# Altium schematic symbol library StLink.SchLib: 24 symbols (part 1 of 3)
Pins are listed as number, name and electrical type; pins without a type are passive.

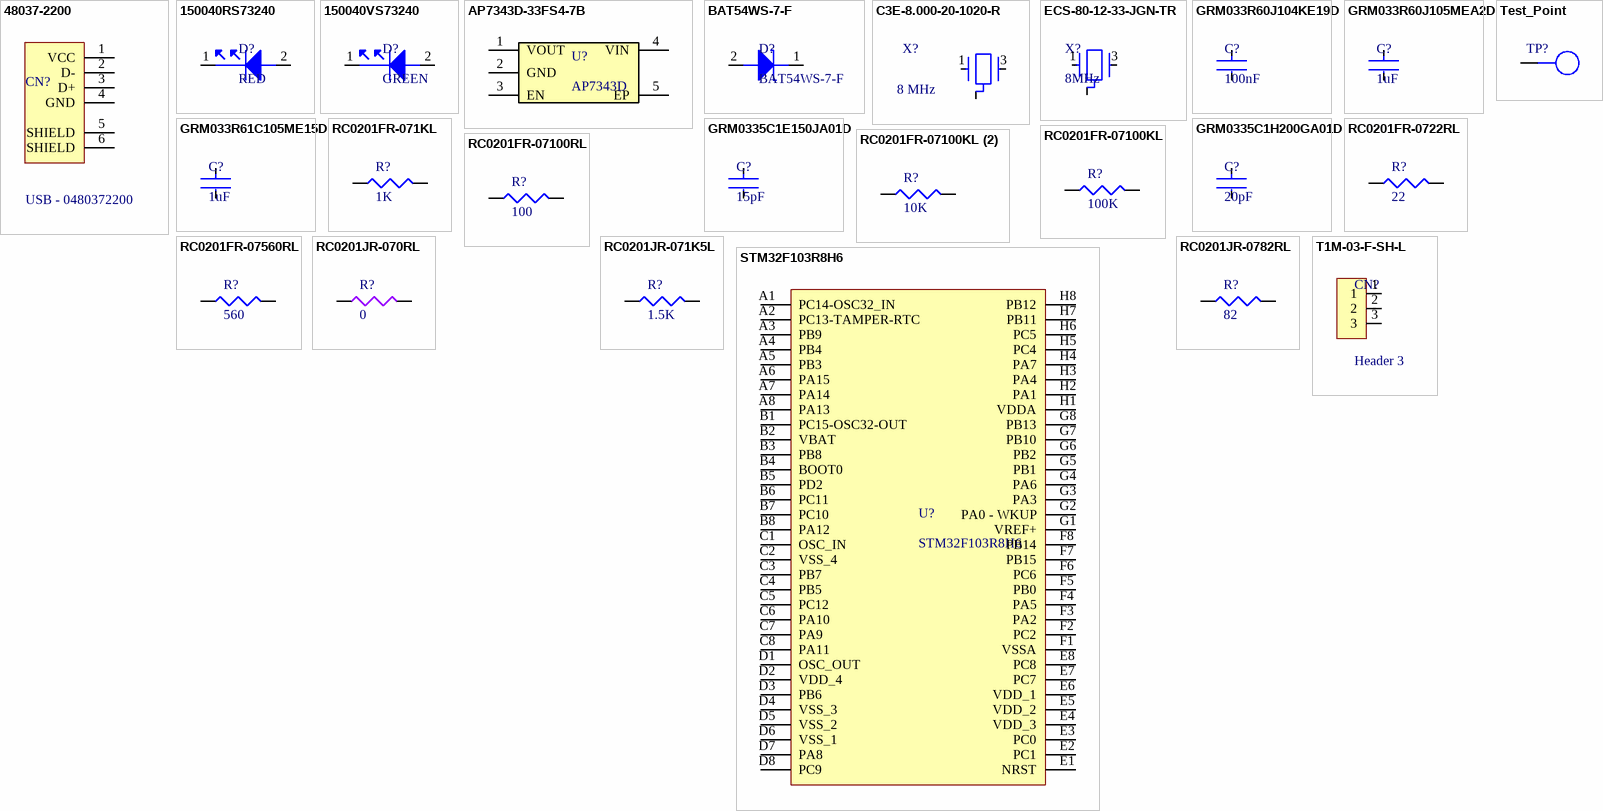
[diagram p0: symbols 48037-2200 to Test_Point]

## 48037-2200
designator CN?, comment USB - 0480372200
USB Connector, 4 Contact(s), Male, Right Angle, Surface Mount Terminal, Locking, Plug; Manufacturer: Molex; Manufacturer Part Number: 48037-2200; Manufacturer Lifecycle Status: ACTIVE; Connector Type: Plug, USB; Current Rating: 1.5A; Insulation Resistance: 1GΩ; Max Voltage Rating (AC): 150V; Number of Circuits: 4; Number of Ports: 1; Pitch: 2mm; Plating: Tin; Plating Thickness: 762nm; USB Standard: USB 2.0; Supplier: DigiKey; Supplier Part Number: WM3983DKR-ND; RoHS: Compliant; Category: USB Connectors; Stock: 10090; Pricing: 1=1,32, 10=1,123, 25=1,0524, 50=1,0022, 100=0,9543 (USD); China RoHS: Compliant; Color: Black; Contact Material: Brass; Contact Plating: Gold; Country of Origin: HK; Export Control Classification Number (ECCN) Code: EAR99; Gender: Male; Halogen Free: Low Halogen; Height: 4.6mm; Housing Material: Nylon; Harmonized Tariff Schedule (HTS) Code: 8536.69.40.30; Introduction Date: 2007-05-29; Lifecycle Status: Production; LTB Date: 2014-09-01; LTD Date: 2014-12-31; Max Operating Temperature: 85°C; Min Operating Temperature: -20°C; Mounting Technology: Surface Mount; Number of Contacts: 4; Pins: 4; Number of Positions: 4; Number of Rows: 1; Number of Terminals: 4; Orientation: Right Angle; Packaging: Cut Tape; Radiation Hardening: No; REACH SVHC: Yes; Schedule B: 8536695050, 8536695050|8536695050|8536695050|8536695050|8536695050; Shell Finish: Nickel; Shell Material: Steel; Terminal Pitch: 2mm; Termination: Solder; Voltage Rating: 150V; Voltage Rating (AC): 150V; ComponentLink1URL: https://datasheet.octopart.com:443/480372200-Molex-datasheet-142372981.pdf?src-supplier=Upverter; ComponentLink1Description: https://datasheet.octopart.com:443/480372200-Molex-datasheet-142372981.pdf?src-supplier=Upverter; ComponentLink2URL: https://datasheet.octopart.com:443/48037-2200-Molex-datasheet-62059301.pdf?src-supplier=Upverter; ComponentLink2Description: https://datasheet.octopart.com:443/48037-2200-Molex-datasheet-62059301.pdf?src-supplier=Upverter; ComponentLink3URL: https://datasheet.octopart.com:443/480372200-Molex-datasheet-8344610.pdf?src-supplier=HQonline; ComponentLink3Description: https://datasheet.octopart.com:443/480372200-Molex-datasheet-8344610.pdf?src-supplier=HQonline; ComponentLink4URL: https://datasheet.octopart.com:443/48037-2200-Molex-datasheet-13746345.pdf?src-supplier=Sager+Electronics; ComponentLink4Description: https://datasheet.octopart.com:443/48037-2200-Molex-datasheet-13746345.pdf?src-supplier=Sager+Electronics; ComponentLink5URL: https://datasheet.octopart.com:443/48037-2200-Molex-datasheet-193109030.pdf?src-supplier=JRH+Electronics; ComponentLink5Description: https://datasheet.octopart.com:443/48037-2200-Molex-datasheet-193109030.pdf?src-supplier=JRH+Electronics; ComponentLink6URL: https://sigma.octopart.com:443/16400051/technical_drawing/Molex-48037-2200.pdf?src-supplier=Molex; ComponentLink6Description: https://sigma.octopart.com:443/16400051/technical_drawing/Molex-48037-2200.pdf?src-supplier=Molex; ComponentLink7URL: https://datasheet.octopart.com:443/48037-2200-Molex-datasheet-77558076.pdf?src-supplier=Farnell; ComponentLink7Description: https://datasheet.octopart.com:443/48037-2200-Molex-datasheet-77558076.pdf?src-supplier=Farnell; ComponentLink8URL: https://datasheet.octopart.com:443/48037-2200-Molex-datasheet-154752285.pdf?src-supplier=Master+Electronics; ComponentLink8Description: https://datasheet.octopart.com:443/48037-2200-Molex-datasheet-154752285.pdf?src-supplier=Master+Electronics; ComponentLink9URL: https://datasheet.octopart.com:443/48037-2200-Molex-datasheet-66635163.pdf?src-supplier=Newark; ComponentLink9Description: https://datasheet.octopart.com:443/48037-2200-Molex-datasheet-66635163.pdf?src-supplier=Newark; ComponentLink10URL: https://datasheet.octopart.com:443/48037-2200-Molex-datasheet-168216728.pdf?src-supplier=TME; ComponentLink10Description: https://datasheet.octopart.com:443/48037-2200-Molex-datasheet-168216728.pdf?src-supplier=TME; ComponentLink11URL: https://datasheet.octopart.com:443/48037-2200-Molex-datasheet-140185240.pdf?src-supplier=RS+(Formerly+Allied+Electronics); ComponentLink11Description: https://datasheet.octopart.com:443/48037-2200-Molex-datasheet-140185240.pdf?src-supplier=RS+(Formerly+Allied+Electronics); ComponentLink12URL: https://datasheet.octopart.com:443/48037-2200-Molex-datasheet-120151368.pdf?src-supplier=RS+(Formerly+Allied+Electronics); ComponentLink12Description: https://datasheet.octopart.com:443/48037-2200-Molex-datasheet-120151368.pdf?src-supplier=RS+(Formerly+Allied+Electronics); ComponentLink13URL: https://datasheet.octopart.com:443/48037-2200-Molex-datasheet-62104878.pdf?src-supplier=Electro+Sonic; ComponentLink13Description: https://datasheet.octopart.com:443/48037-2200-Molex-datasheet-62104878.pdf?src-supplier=Electro+Sonic; ComponentLink14URL: https://datasheet.octopart.com:443/48037-2200-Molex-datasheet-41578501.pdf?src-supplier=Electro+Sonic; ComponentLink14Description: https://datasheet.octopart.com:443/48037-2200-Molex-datasheet-41578501.pdf?src-supplier=Electro+Sonic; ComponentLink15URL: https://datasheet.octopart.com:443/48037-2200-Molex-datasheet-27085190.pdf?src-supplier=Electro+Sonic; ComponentLink15Description: https://datasheet.octopart.com:443/48037-2200-Molex-datasheet-27085190.pdf?src-supplier=Electro+Sonic; ComponentLink16URL: http://sigma.octopart.com:80/16400050/rohs_statement/Molex-48037-2200.pdf?src-supplier=Compliance+Statements; ComponentLink16Description: http://sigma.octopart.com:80/16400050/rohs_statement/Molex-48037-2200.pdf?src-supplier=Compliance+Statements; ComponentLink17URL: http://sigma.octopart.com:80/reach_statement/Molex-company-74.pdf?src-supplier=Compliance+Statements; ComponentLink17Description: http://sigma.octopart.com:80/reach_statement/Molex-company-74.pdf?src-supplier=Compliance+Statements; ComponentLink18URL: http://sigma.octopart.com:80/rohs_statement/Molex-company-73.pdf?src-supplier=Compliance+Statements; ComponentLink18Description: http://sigma.octopart.com:80/rohs_statement/Molex-company-73.pdf?src-supplier=Compliance+Statements; ComponentLink19URL: http://sigma.octopart.com:80/conflict_mineral_statement/Molex-company-72.pdf?src-supplier=Compliance+Statements; ComponentLink19Description: http://sigma.octopart.com:80/conflict_mineral_statement/Molex-company-72.pdf?src-supplier=Compliance+Statements; Supplier 1: DigiKey; Supplier Part Number 1: WM3983DKR-ND
footprint usb A
pins: 1 VCC, 2 D-, 3 D+, 4 GND, 5 SHIELD, 6 SHIELD

## 150040RS73240
designator D?, comment RED
Wurth Elektronik LED, WL-SMCC, 1005 (0402), 625 nm, 1 x 0.5 x 0.4mm; Manufacturer Part Number: 150040RS73240; Manufacturer Lifecycle Status: ACTIVE; Dominant Wavelength: 625nm; Forward Current: 60mA; Forward Voltage: 2V; Luminous Intensity: 100mcd; Max Junction Temperature (Tj): 95°C; Max Reverse Voltage (DC): 5V; Peak Wavelength: 630nm; Power Dissipation: 72mW; Viewing Angle: 120°; YEOL: 1 = Estimated lifetime > 10 years; Supplier: DigiKey; Supplier Part Number: 732-11991-1-ND; Manufacturer: Wurth Elektronik; RoHS: Compliant; Category: LEDs; Stock: 5288; Pricing: 1=0,32, 10=0,271, 100=0,244, 500=0,217, 1000=0,191 (USD); Case/Package: 0402; Color: Red; Height: 400µm; Length: 1mm; Lifecycle Status: Production; Max Operating Temperature: 85°C; Min Operating Temperature: -40°C; Packaging: Tape and Reel; Reverse Voltage: 5V; Wavelength: 625nm; Width: 500µm; ComponentLink1URL: https://datasheet.octopart.com:443/150040RS73240-W%C3%BCrth-Elektronik-datasheet-140170125.pdf?src-supplier=Wurth+Elektronik; ComponentLink1Description: https://datasheet.octopart.com:443/150040RS73240-W%C3%BCrth-Elektronik-datasheet-140170125.pdf?src-supplier=Wurth+Elektronik; Supplier 1: DigiKey; Supplier Part Number 1: 732-11991-1-ND
footprint Led 0402
pins: 1, 2

## 150040VS73240
designator D?, comment GREEN
Wurth Elektronik LED, WL-SMCC, 1005 (0402), 570 nm, 1 x 0.5 x 0.4mm; Manufacturer Part Number: 150040VS73240; Manufacturer Lifecycle Status: ACTIVE; Dominant Wavelength: 570nm; Forward Current: 60mA; Forward Voltage: 2V; Luminous Intensity: 50mcd; Max Junction Temperature (Tj): 95°C; Max Reverse Voltage (DC): 5V; Peak Wavelength: 572nm; Power Dissipation: 75mW; Viewing Angle: 120°; YEOL: 1 = Estimated lifetime > 10 years; Supplier: DigiKey; Supplier Part Number: 732-11992-1-ND; Manufacturer: Wurth Elektronik; RoHS: Compliant; Category: LEDs; Stock: 80192; Pricing: 1=0,32, 10=0,271, 100=0,244, 500=0,217, 1000=0,191 (USD); Case/Package: 0402; Color: Green; Height: 400µm; Length: 1mm; Lifecycle Status: Production; Max Operating Temperature: 85°C; Min Operating Temperature: -40°C; Packaging: Tape and Reel; Reverse Voltage: 5V; Wavelength: 570nm; Width: 500µm; ComponentLink1URL: https://datasheet.octopart.com:443/150040VS73240-W%C3%BCrth-Elektronik-datasheet-140170126.pdf?src-supplier=Wurth+Elektronik; ComponentLink1Description: https://datasheet.octopart.com:443/150040VS73240-W%C3%BCrth-Elektronik-datasheet-140170126.pdf?src-supplier=Wurth+Elektronik; Supplier 1: DigiKey; Supplier Part Number 1: 732-11992-1-ND
footprint Led 0402
pins: 1, 2

## AP7343D-33FS4-7B
designator U?, comment AP7343D
Ldo, Fixed, 3.3V, 0.3A, -40 To 85Deg C Rohs Compliant: Yes |Diodes Inc. AP7343D-33FS4-7B; Dropout Voltage: 220mV; Max Supply Voltage: 5.25V; Max Junction Temperature (Tj): 125°C; Min Input Voltage: 4.3V; Number of Circuits: 1; Output Current: 300mA; Voltage Tolerance: 1%; Supplier: DigiKey; Supplier Part Number: AP7343D-33FS4-7BDICT-ND; Manufacturer: Diodes Inc.; Manufacturer Part Number: AP7343D-33FS4-7B; RoHS: Compliant; Category: LDO Voltage Regulators; Stock: 9621; Pricing: 1=0,11, 10=0,076, 25=0,0664, 100=0,0557, 250=0,05072, 500=0,04772, 1000=0,04524, 2500=0,04261, 5000=0,04103, 10000=0,03973, 20000=0,03865, 30000=0,03812, 50000=0,03752, 70000=0,03717, 100000=0,03684, 250000=0,03612 (USD); China RoHS: Compliant; Country of Origin: Mainland China; Export Control Classification Number (ECCN) Code: EAR99; Height - Seated (Max): 400µm; Harmonized Tariff Schedule (HTS) Code: 8542.39.00.60; Introduction Date: 2015-12-08; Length: 1mm; Lifecycle Status: Production; Max Operating Temperature: 85°C; Min Operating Temperature: -40°C; Mounting Technology: Surface Mount; Number of Outputs: 1; Number of Regulators: 1; Number of Terminals: 4; Output Voltage: 3.3V; REACH SVHC: Yes; Terminal Pitch: 650µm; Width: 1mm; ComponentLink1URL: https://datasheet.octopart.com:443/AP7343D-33FS4-7B-Diodes-Inc.-datasheet-160640090.pdf?src-supplier=IHS; ComponentLink1Description: https://datasheet.octopart.com:443/AP7343D-33FS4-7B-Diodes-Inc.-datasheet-160640090.pdf?src-supplier=IHS; ComponentLink2URL: https://datasheet.octopart.com:443/AP7343D-33FS4-7B-Diodes-Inc.-datasheet-76801213.pdf?src-supplier=SHENGYU+ELECTRONICS; ComponentLink2Description: https://datasheet.octopart.com:443/AP7343D-33FS4-7B-Diodes-Inc.-datasheet-76801213.pdf?src-supplier=SHENGYU+ELECTRONICS; Supplier 1: DigiKey; Supplier Part Number 1: AP7343D-33FS4-7BDICT-ND; Supplier Location 1: US; Supplier Unit Price 1: $0.11; Supplier Packaging 1: Cut Tape; LCSC: C260892
footprint AP7343D
pins: 1 VOUT, 2 GND, 3 EN, 4 VIN, 5 EP

## BAT54WS-7-F
designator D?
Schottky Diode Sod323 T&r 3K Rohs Compliant: Yes |Diodes Inc. BAT54WS-7-F; Average Rectified Current: 100mA; Value: 10pF; Current Rating: 200mA; Element Configuration: Single; Forward Voltage: 1V; Max Forward Surge Current (Ifsm): 600mA; Max Junction Temperature (Tj): 150°C; Max Power Dissipation: 200mW; Max Repetitive Reverse Voltage (Vrrm): 30V; Number of Elements: 1; Peak Reverse Current: 2µA; Polarity: Standard; Reverse Recovery Time: 5ns; Reverse Standoff Voltage: 25V; Reverse Voltage: 21V; Parameter 1: C124205; Supplier: DigiKey; Supplier Part Number: BAT54WS-FDICT-ND; Manufacturer: Diodes Inc.; Manufacturer Part Number: BAT54WS-7-F; RoHS: Compliant; Category: Schottky Diodes; Stock: 46117; Pricing: 1=0,1, 10=0,064, 100=0,0617, 500=0,04736, 1000=0,04232 (USD); China RoHS: Compliant; Contact Plating: Tin; Country of Origin: Mainland China, Taiwan; Export Control Classification Number (ECCN) Code: EAR99; Forward Current: 200mA; Height: 1.2mm; Harmonized Tariff Schedule (HTS) Code: 8541.10.00.70; Introduction Date: 2002-09-16; Lead Free: Lead Free; Length: 1.8mm; Lifecycle Status: Production; Max Operating Temperature: 150°C; Max Output current: 100mA; Max Reverse Voltage (DC): 30V; Min Breakdown Voltage: 30V; Min Operating Temperature: -65°C; Mounting Technology: Surface Mount; Pins: 2; Number of Terminals: 2; Output Current: 100mA; Packaging: Cut Tape; Peak Non-Repetitive Surge Current: 600mA; Power Dissipation: 200mW; Power Rating: 200mW; Radiation Hardening: No; REACH SVHC: Yes; Schedule B: 8541100070, 8541100070|8541100070|8541100070|8541100070|8541100070; Voltage Rating (DC): 30V; Weight: 4.904468mg; Width: 1.4mm; ComponentLink1URL: https://datasheet.octopart.com:443/BAT54WS-7-F-Diodes-Inc.-datasheet-166296601.pdf?src-supplier=IHS; ComponentLink1Description: https://datasheet.octopart.com:443/BAT54WS-7-F-Diodes-Inc.-datasheet-166296601.pdf?src-supplier=IHS; ComponentLink2URL: https://datasheet.octopart.com:443/BAT54WS-7-F-Diodes-Inc.-datasheet-134530444.pdf?src-supplier=ODG+(Origin+Data+Global); ComponentLink2Description: https://datasheet.octopart.com:443/BAT54WS-7-F-Diodes-Inc.-datasheet-134530444.pdf?src-supplier=ODG+(Origin+Data+Global); ComponentLink3URL: https://sigma.octopart.com:443/138810740/technical_drawing/Diodes-Inc.-BAT54WS-7-F.pdf?src-supplier=Diodes+Inc+SCT; ComponentLink3Description: https://sigma.octopart.com:443/138810740/technical_drawing/Diodes-Inc.-BAT54WS-7-F.pdf?src-supplier=Diodes+Inc+SCT; ComponentLink4URL: https://datasheet.octopart.com:443/BAT54WS-7-F-Diodes-Inc.-datasheet-38879683.pdf?src-supplier=Newark; ComponentLink4Description: https://datasheet.octopart.com:443/BAT54WS-7-F-Diodes-Inc.-datasheet-38879683.pdf?src-supplier=Newark; ComponentLink5URL: https://datasheet.octopart.com:443/BAT54WS-7-F-Diodes-Inc.-datasheet-8330708.pdf?src-supplier=element14+APAC; ComponentLink5Description: https://datasheet.octopart.com:443/BAT54WS-7-F-Diodes-Inc.-datasheet-8330708.pdf?src-supplier=element14+APAC; ComponentLink6URL: https://datasheet.octopart.com:443/BAT54WS-7-F-Diodes-Inc.-datasheet-62304969.pdf?src-supplier=Future+Electronics; ComponentLink6Description: https://datasheet.octopart.com:443/BAT54WS-7-F-Diodes-Inc.-datasheet-62304969.pdf?src-supplier=Future+Electronics; ComponentLink7URL: https://datasheet.octopart.com:443/BAT54WS-7-F-Diodes-Inc.-datasheet-14053335.pdf?src-supplier=iiiC; ComponentLink7Description: https://datasheet.octopart.com:443/BAT54WS-7-F-Diodes-Inc.-datasheet-14053335.pdf?src-supplier=iiiC; ComponentLink8URL: https://datasheet.octopart.com:443/BAT54WS-7-F-Diodes-Inc.-datasheet-8193963.pdf?src-supplier=Jameco; ComponentLink8Description: https://datasheet.octopart.com:443/BAT54WS-7-F-Diodes-Inc.-datasheet-8193963.pdf?src-supplier=Jameco; ComponentLink9URL: https://datasheet.octopart.com:443/BAT54WS-7-F-Diodes-Inc.-datasheet-130944.pdf?src-supplier=DigiKey; ComponentLink9Description: https://datasheet.octopart.com:443/BAT54WS-7-F-Diodes-Inc.-datasheet-130944.pdf?src-supplier=DigiKey; ComponentLink10URL: http://sigma.octopart.com:80/15616894/materials_sheet/Diodes-Inc.-BAT54WS-7-F.pdf?src-supplier=Compliance+Statements; ComponentLink10Description: http://sigma.octopart.com:80/15616894/materials_sheet/Diodes-Inc.-BAT54WS-7-F.pdf?src-supplier=Compliance+Statements; Supplier 1: DigiKey; Supplier Part Number 1: BAT54WS-FDICT-ND; Supplier Location 1: US; Supplier Unit Price 1: $0.10; Supplier Packaging 1: Cut Tape
footprint SOD323
pins: 1, 2

## C3E-8.000-20-1020-R
designator X?, comment 8 MHz
Parallel - Fundamental Quartz Crystal, 8MHz Nom; Manufacturer: Aker; Manufacturer Part Number: C3E-8.000-20-1020-R; Frequency Stability: 20ppm; Frequency Tolerance: 0.001%; Load Capacitance: 20pF; ESR: 500Ω; Supplier: DigiKey; Supplier Part Number: 3997-C3E-8.000-20-1020-RCT-ND; Category: Crystals; Stock: 914; Pricing: 1=0,59, 10=0,51, 25=0,4828, 50=0,4628, 100=0,4437, 250=0,41956, 500=0,4022 (USD); Country of Origin: Taiwan; Frequency: 8MHz; Max Operating Temperature: 70°C; Min Operating Temperature: -20°C; Mounting Technology: Surface Mount; ComponentLink1URL: https://datasheet.octopart.com:443/C3E-8.000-20-1020-R-Aker-datasheet-182230522.pdf?src-supplier=IHS; ComponentLink1Description: https://datasheet.octopart.com:443/C3E-8.000-20-1020-R-Aker-datasheet-182230522.pdf?src-supplier=IHS; Supplier 1: DigiKey; Supplier Part Number 1: 3997-C3E-8.000-20-1020-RCT-ND
footprint Cristal C3E
pins: 1, 2 GND, 3, 4 GND

## ECS-80-12-33-JGN-TR
designator X?, comment 8MHz
Crystal 8MHz ±20ppm (Tol) ±30ppm (Stability) 12pF FUND 400Ohm 4-Pin Mini-CSMD T/R; Manufacturer: ECS International; Manufacturer Part Number: ECS-80-12-33-JGN-TR; Frequency Tolerance: 0.002%; ESR: 400Ω; Supplier: DigiKey; Supplier Part Number: 50-ECS-80-12-33-JGN-CT-ND; RoHS: Compliant; Category: Crystals; Stock: 8185; Pricing: 1=0,58, 10=0,508, 25=0,4808, 50=0,461, 100=0,4419, 250=0,41784, 500=0,40056 (USD); Country of Origin: South Korea, Taiwan; Frequency: 8MHz; Frequency Stability: 30ppm; Harmonized Tariff Schedule (HTS) Code: 8541.60.00.50; Introduction Date: 2018-05-11; Lifecycle Status: Production; Load Capacitance: 12pF; Max Operating Temperature: 85°C; Min Operating Temperature: -40°C; Mounting Technology: Surface Mount; REACH SVHC: Yes; Schedule B: 8541600025, 8541600025|8541600025, 8541600025|8541600025|8541600025, 8541600025|8541600025|8541600025|8541600025; ComponentLink1URL: https://datasheet.octopart.com:443/ECS-80-12-33-JGN-TR-ECS-International-datasheet-182217405.pdf?src-supplier=IHS; ComponentLink1Description: https://datasheet.octopart.com:443/ECS-80-12-33-JGN-TR-ECS-International-datasheet-182217405.pdf?src-supplier=IHS; ComponentLink2URL: https://datasheet.octopart.com:443/ECS-80-12-33-JGN-TR-ECS-International-datasheet-17018741.pdf?src-supplier=Master+Electronics; ComponentLink2Description: https://datasheet.octopart.com:443/ECS-80-12-33-JGN-TR-ECS-International-datasheet-17018741.pdf?src-supplier=Master+Electronics; ComponentLink3URL: https://datasheet.octopart.com:443/ECS-80-12-33-JGN-TR-ECS-International-datasheet-179230830.pdf?src-supplier=Master+Electronics; ComponentLink3Description: https://datasheet.octopart.com:443/ECS-80-12-33-JGN-TR-ECS-International-datasheet-179230830.pdf?src-supplier=Master+Electronics; ComponentLink4URL: https://datasheet.octopart.com:443/ECS-80-12-33-JGN-TR-ECS-International-datasheet-140089731.pdf?src-supplier=Future+Electronics; ComponentLink4Description: https://datasheet.octopart.com:443/ECS-80-12-33-JGN-TR-ECS-International-datasheet-140089731.pdf?src-supplier=Future+Electronics; Supplier 1: DigiKey; Supplier Part Number 1: 50-ECS-80-12-33-JGN-CT-ND
footprint Cristal ECS
pins: 1, 2 GND, 3, 4 GND

## GRM033R60J104KE19D
designator C?, comment 100nF
6.3V 100nF X5R ±10% 0201 Multilayer Ceramic Capacitors MLCC - SMD/SMT ROHS; Manufacturer: Murata; Manufacturer Part Number: GRM033R60J104KE19D; Manufacturer Lifecycle Status: IN PRODUCTION; Supplier: DigiKey; Supplier Part Number: 490-3167-6-ND; RoHS: Compliant; Category: Ceramic Capacitors; Stock: 19959733; Pricing: 1=0,1, 10=0,013, 50=0,0084, 100=0,007, 500=0,00476, 1000=0,00409, 2500=0,00338, 5000=0,00295 (USD); Value: 100nF; Case/Package: 0201; Case Code (Imperial): 0201; Case Code (Metric): 0603; Country of Origin: Philippines; Depth: 300µm; Dielectric: X5R; Dielectric Material: Ceramic; Export Control Classification Number (ECCN) Code: EAR99; Height: 300µm; Harmonized Tariff Schedule (HTS) Code: 8532.24.00.20; Introduction Date: 2004-09-04; Lead Free: Lead Free; Length: 600µm; Lifecycle Status: Production; Material: Ceramic; Max Operating Temperature: 85°C; Min Operating Temperature: -55°C; Mounting Technology: Surface Mount; Pins: 2; Number of Terminals: 2; Packaging: Cut Tape (CT); Radiation Hardening: No; REACH SVHC: Yes; Schedule B: 8532240020, 8532240020|8532240020, 8532240020|8532240020|8532240020, 8532240020|8532240020|8532240020|8532240020; Termination: SMD/SMT; Thickness: 300µm; Tolerance: 10%; Voltage: 6.3V; Voltage Rating: 6.3V; Voltage Rating (DC): 6.3V; Weight: 170.097139µg; Width: 300µm; ComponentLink1URL: https://datasheet.octopart.com:443/GRM033R60J104KE19D-Murata-datasheet-5390194.pdf?src-supplier=Upverter; ComponentLink1Description: https://datasheet.octopart.com:443/GRM033R60J104KE19D-Murata-datasheet-5390194.pdf?src-supplier=Upverter; ComponentLink2URL: https://datasheet.octopart.com:443/GRM033R60J104KE19D-Murata-datasheet-62317028.pdf?src-supplier=element14+APAC; ComponentLink2Description: https://datasheet.octopart.com:443/GRM033R60J104KE19D-Murata-datasheet-62317028.pdf?src-supplier=element14+APAC; ComponentLink3URL: https://datasheet.octopart.com:443/GRM033R60J104KE19D-Murata-datasheet-17853058.pdf?src-supplier=element14+APAC; ComponentLink3Description: https://datasheet.octopart.com:443/GRM033R60J104KE19D-Murata-datasheet-17853058.pdf?src-supplier=element14+APAC; ComponentLink4URL: https://datasheet.octopart.com:443/GRM033R60J104KE19D-Murata-datasheet-8397485.pdf?src-supplier=Newark; ComponentLink4Description: https://datasheet.octopart.com:443/GRM033R60J104KE19D-Murata-datasheet-8397485.pdf?src-supplier=Newark; ComponentLink5URL: https://datasheet.octopart.com:443/GRM033R60J104KE19D-Murata-datasheet-14399027.pdf?src-supplier=Future+Electronics; ComponentLink5Description: https://datasheet.octopart.com:443/GRM033R60J104KE19D-Murata-datasheet-14399027.pdf?src-supplier=Future+Electronics; ComponentLink6URL: https://datasheet.octopart.com:443/GRM033R60J104KE19D-Murata-datasheet-22122223.pdf?src-supplier=Future+Electronics; ComponentLink6Description: https://datasheet.octopart.com:443/GRM033R60J104KE19D-Murata-datasheet-22122223.pdf?src-supplier=Future+Electronics; ComponentLink7URL: https://datasheet.octopart.com:443/GRM033R60J104KE19D-Murata-datasheet-44105374.pdf?src-supplier=Future+Electronics; ComponentLink7Description: https://datasheet.octopart.com:443/GRM033R60J104KE19D-Murata-datasheet-44105374.pdf?src-supplier=Future+Electronics; ComponentLink8URL: https://datasheet.octopart.com:443/GRM033R60J104KE19D-Murata-datasheet-165579666.pdf?src-supplier=TME; ComponentLink8Description: https://datasheet.octopart.com:443/GRM033R60J104KE19D-Murata-datasheet-165579666.pdf?src-supplier=TME; ComponentLink9URL: https://datasheet.octopart.com:443/GRM033R60J104KE19D-Murata-datasheet-140710156.pdf?src-supplier=TME; ComponentLink9Description: https://datasheet.octopart.com:443/GRM033R60J104KE19D-Murata-datasheet-140710156.pdf?src-supplier=TME; ComponentLink10URL: https://datasheet.octopart.com:443/GRM033R60J104KE19D-Murata-datasheet-141274201.pdf?src-supplier=Ciiva; ComponentLink10Description: https://datasheet.octopart.com:443/GRM033R60J104KE19D-Murata-datasheet-141274201.pdf?src-supplier=Ciiva; ComponentLink11URL: https://datasheet.octopart.com:443/GRM033R60J104KE19D-Murata-datasheet-140675741.pdf?src-supplier=Ciiva; ComponentLink11Description: https://datasheet.octopart.com:443/GRM033R60J104KE19D-Murata-datasheet-140675741.pdf?src-supplier=Ciiva; ComponentLink12URL: https://datasheet.octopart.com:443/GRM033R60J104KE19D-Murata-datasheet-138738333.pdf?src-supplier=Ciiva; ComponentLink12Description: https://datasheet.octopart.com:443/GRM033R60J104KE19D-Murata-datasheet-138738333.pdf?src-supplier=Ciiva; ComponentLink13URL: https://datasheet.octopart.com/GRM033R60J104KE19D-Murata-datasheet-12515295.pdf; ComponentLink13Description: https://datasheet.octopart.com/GRM033R60J104KE19D-Murata-datasheet-12515295.pdf; ComponentLink14URL: https://datasheet.octopart.com/GRM033R60J104KE19D-Murata-datasheet-12510076.pdf; ComponentLink14Description: https://datasheet.octopart.com/GRM033R60J104KE19D-Murata-datasheet-12510076.pdf; ComponentLink15URL: https://datasheet.octopart.com/GRM033R60J104KE19D-Murata-datasheet-11978611.pdf; ComponentLink15Description: https://datasheet.octopart.com/GRM033R60J104KE19D-Murata-datasheet-11978611.pdf; ComponentLink16URL: https://datasheet.octopart.com/GRM033R60J104KE19D-Murata-datasheet-10025737.pdf; ComponentLink16Description: https://datasheet.octopart.com/GRM033R60J104KE19D-Murata-datasheet-10025737.pdf; ComponentLink17URL: https://datasheet.octopart.com/GRM033R60J104KE19D-Murata-datasheet-8819587.pdf; ComponentLink17Description: https://datasheet.octopart.com/GRM033R60J104KE19D-Murata-datasheet-8819587.pdf; ComponentLink18URL: https://datasheet.octopart.com:443/GRM033R60J104KE19D-Murata-datasheet-12510170.pdf?src-supplier=Factory+Futures; ComponentLink18Description: https://datasheet.octopart.com:443/GRM033R60J104KE19D-Murata-datasheet-12510170.pdf?src-supplier=Factory+Futures; ComponentLink19URL: https://datasheet.octopart.com:443/GRM033R60J104KE19D-Murata-datasheet-8517407.pdf?src-supplier=Factory+Futures; ComponentLink19Description: https://datasheet.octopart.com:443/GRM033R60J104KE19D-Murata-datasheet-8517407.pdf?src-supplier=Factory+Futures; ComponentLink20URL: https://datasheet.octopart.com:443/GRM033R60J104KE19D-Murata-datasheet-8387045.pdf?src-supplier=Factory+Futures; ComponentLink20Description: https://datasheet.octopart.com:443/GRM033R60J104KE19D-Murata-datasheet-8387045.pdf?src-supplier=Factory+Futures; ComponentLink21URL: https://datasheet.octopart.com:443/GRM033R60J104KE19D-Murata-datasheet-8324201.pdf?src-supplier=Factory+Futures; ComponentLink21Description: https://datasheet.octopart.com:443/GRM033R60J104KE19D-Murata-datasheet-8324201.pdf?src-supplier=Factory+Futures; ComponentLink22URL: https://datasheet.octopart.com:443/GRM033R60J104KE19D-Murata-datasheet-7628724.pdf?src-supplier=Factory+Futures; ComponentLink22Description: https://datasheet.octopart.com:443/GRM033R60J104KE19D-Murata-datasheet-7628724.pdf?src-supplier=Factory+Futures; ComponentLink23URL: https://datasheet.octopart.com:443/GRM033R60J104KE19D-Murata-datasheet-552801.pdf?src-supplier=Factory+Futures; ComponentLink23Description: https://datasheet.octopart.com:443/GRM033R60J104KE19D-Murata-datasheet-552801.pdf?src-supplier=Factory+Futures; ComponentLink24URL: https://datasheet.octopart.com:443/GRM033R60J104KE19D.-Murata-datasheet-5332913.pdf?src-supplier=Farnell; ComponentLink24Description: https://datasheet.octopart.com:443/GRM033R60J104KE19D.-Murata-datasheet-5332913.pdf?src-supplier=Farnell; ComponentLink25URL: https://datasheet.octopart.com:443/GRM033R60J104KE19D-Murata-datasheet-148210.pdf?src-supplier=Garrett; ComponentLink25Description: https://datasheet.octopart.com:443/GRM033R60J104KE19D-Murata-datasheet-148210.pdf?src-supplier=Garrett; ComponentLink26URL: https://datasheet.octopart.com:443/GRM033R60J104KE19D-Murata-datasheet-118811.pdf?src-supplier=DigiKey; ComponentLink26Description: https://datasheet.octopart.com:443/GRM033R60J104KE19D-Murata-datasheet-118811.pdf?src-supplier=DigiKey; ComponentLink27URL: http://sigma.octopart.com:80/reach_statement/Murata-company-16.pdf?src-supplier=Compliance+Statements; ComponentLink27Description: http://sigma.octopart.com:80/reach_statement/Murata-company-16.pdf?src-supplier=Compliance+Statements; Supplier 1: DigiKey; Supplier Part Number 1: 490-3167-6-ND
footprint C0201
pins: 1, 2

## GRM033R60J105MEA2D
designator C?, comment 1uF
6.3V 1uF X5R ±20% 0201 Multilayer Ceramic Capacitors MLCC - SMD/SMT ROHS; Manufacturer: Murata; Manufacturer Part Number: GRM033R60J105MEA2D; Manufacturer Lifecycle Status: IN PRODUCTION; Value: 1µF; Supplier: DigiKey; Supplier Part Number: 490-7229-6-ND; RoHS: Compliant; Category: Ceramic Capacitors; Stock: 3327099; Pricing: 1=0,1, 10=0,023, 50=0,015, 100=0,0128, 500=0,00892, 1000=0,00775, 2500=0,00652, 5000=0,00578 (USD); Case/Package: 0201; Case Code (Imperial): 0201; Case Code (Metric): 0603; Country of Origin: Japan, Mainland China, Philippines, Singapore, Thailand; Depth: 300µm; Dielectric: X5R; Dielectric Material: Ceramic; Export Control Classification Number (ECCN) Code: EAR99; Height: 300µm; Harmonized Tariff Schedule (HTS) Code: 8532.24.00.20; Introduction Date: 2013-11-20; Lead Free: Lead Free; Length: 600µm; Lifecycle Status: Production; Material: Ceramic; Max Operating Temperature: 85°C; Min Operating Temperature: -55°C; Mounting Technology: Surface Mount; Number of Terminals: 2; REACH SVHC: Yes; Schedule B: 8532240020, 8532240020|8532240020, 8532240020|8532240020|8532240020, 8532240020|8532240020|8532240020|8532240020; Termination: SMD/SMT; Thickness: 300µm; Tolerance: 20%; Voltage: 6.3V; Voltage Rating: 6.3V; Voltage Rating (DC): 6.3V; Weight: 340.194278µg; Width: 300µm; ComponentLink1URL: https://datasheet.octopart.com:443/GRM033R60J105MEA2D-Murata-datasheet-96971104.pdf?src-supplier=Upverter; ComponentLink1Description: https://datasheet.octopart.com:443/GRM033R60J105MEA2D-Murata-datasheet-96971104.pdf?src-supplier=Upverter; ComponentLink2URL: https://datasheet.octopart.com:443/GRM033R60J105MEA2D-Murata-datasheet-39128465.pdf?src-supplier=Newark; ComponentLink2Description: https://datasheet.octopart.com:443/GRM033R60J105MEA2D-Murata-datasheet-39128465.pdf?src-supplier=Newark; ComponentLink3URL: https://datasheet.octopart.com:443/GRM033R60J105MEA2D-Murata-datasheet-62317029.pdf?src-supplier=element14+APAC; ComponentLink3Description: https://datasheet.octopart.com:443/GRM033R60J105MEA2D-Murata-datasheet-62317029.pdf?src-supplier=element14+APAC; ComponentLink4URL: https://datasheet.octopart.com:443/GRM033R60J105MEA2D-Murata-datasheet-17503191.pdf?src-supplier=Future+Electronics; ComponentLink4Description: https://datasheet.octopart.com:443/GRM033R60J105MEA2D-Murata-datasheet-17503191.pdf?src-supplier=Future+Electronics; ComponentLink5URL: https://datasheet.octopart.com:443/GRM033R60J105MEA2D-Murata-datasheet-128065572.pdf?src-supplier=Future+Electronics; ComponentLink5Description: https://datasheet.octopart.com:443/GRM033R60J105MEA2D-Murata-datasheet-128065572.pdf?src-supplier=Future+Electronics; ComponentLink6URL: https://datasheet.octopart.com:443/GRM033R60J105MEA2D-Murata-datasheet-165579666.pdf?src-supplier=TME; ComponentLink6Description: https://datasheet.octopart.com:443/GRM033R60J105MEA2D-Murata-datasheet-165579666.pdf?src-supplier=TME; ComponentLink7URL: https://datasheet.octopart.com:443/GRM033R60J105MEA2D-Murata-datasheet-141274201.pdf?src-supplier=Ciiva; ComponentLink7Description: https://datasheet.octopart.com:443/GRM033R60J105MEA2D-Murata-datasheet-141274201.pdf?src-supplier=Ciiva; ComponentLink8URL: https://datasheet.octopart.com:443/GRM033R60J105MEA2D-Murata-datasheet-140675743.pdf?src-supplier=Ciiva; ComponentLink8Description: https://datasheet.octopart.com:443/GRM033R60J105MEA2D-Murata-datasheet-140675743.pdf?src-supplier=Ciiva; ComponentLink9URL: https://datasheet.octopart.com:443/GRM033R60J105MEA2D-Murata-datasheet-138738338.pdf?src-supplier=Ciiva; ComponentLink9Description: https://datasheet.octopart.com:443/GRM033R60J105MEA2D-Murata-datasheet-138738338.pdf?src-supplier=Ciiva; ComponentLink10URL: https://datasheet.octopart.com/GRM033R60J105MEA2D-Murata-datasheet-12515295.pdf; ComponentLink10Description: https://datasheet.octopart.com/GRM033R60J105MEA2D-Murata-datasheet-12515295.pdf; ComponentLink11URL: https://datasheet.octopart.com/GRM033R60J105MEA2D-Murata-datasheet-12510076.pdf; ComponentLink11Description: https://datasheet.octopart.com/GRM033R60J105MEA2D-Murata-datasheet-12510076.pdf; ComponentLink12URL: https://datasheet.octopart.com/GRM033R60J105MEA2D-Murata-datasheet-11978611.pdf; ComponentLink12Description: https://datasheet.octopart.com/GRM033R60J105MEA2D-Murata-datasheet-11978611.pdf; ComponentLink13URL: https://datasheet.octopart.com/GRM033R60J105MEA2D-Murata-datasheet-10025737.pdf; ComponentLink13Description: https://datasheet.octopart.com/GRM033R60J105MEA2D-Murata-datasheet-10025737.pdf; ComponentLink14URL: https://datasheet.octopart.com/GRM033R60J105MEA2D-Murata-datasheet-8819587.pdf; ComponentLink14Description: https://datasheet.octopart.com/GRM033R60J105MEA2D-Murata-datasheet-8819587.pdf; ComponentLink15URL: https://datasheet.octopart.com:443/GRM033R60J105MEA2D-Murata-datasheet-140568760.pdf?src-supplier=Arrow.cn; ComponentLink15Description: https://datasheet.octopart.com:443/GRM033R60J105MEA2D-Murata-datasheet-140568760.pdf?src-supplier=Arrow.cn; ComponentLink16URL: http://sigma.octopart.com:80/reach_statement/Murata-company-16.pdf?src-supplier=Compliance+Statements; ComponentLink16Description: http://sigma.octopart.com:80/reach_statement/Murata-company-16.pdf?src-supplier=Compliance+Statements; Supplier 1: DigiKey; Supplier Part Number 1: 490-7229-6-ND
footprint C0201
pins: 1, 2

## GRM033R61C105ME15D
designator C?, comment 1uF
16V 1uF X5R ±20% 0201 Multilayer Ceramic Capacitors MLCC - SMD/SMT ROHS; Manufacturer: Murata; Manufacturer Part Number: GRM033R61C105ME15D; Manufacturer Lifecycle Status: IN PRODUCTION; Value: 1µF; Supplier: DigiKey; Supplier Part Number: 490-18654-1-ND; RoHS: Compliant; Category: Ceramic Capacitors; Stock: 494203; Pricing: 1=0,14, 10=0,078, 50=0,0542, 100=0,0471, 500=0,03512, 1000=0,03144, 2500=0,02756, 5000=0,02522 (USD); Case/Package: 0201; Country of Origin: Japan, Mainland China, Philippines, Singapore, Thailand; Dielectric: X5R; Dielectric Material: Ceramic; Export Control Classification Number (ECCN) Code: EAR99; Height: 300µm; Harmonized Tariff Schedule (HTS) Code: 8532.24.00.20; Introduction Date: 2021-04-22; Length: 600µm; Lifecycle Status: Production; Material: Ceramic; Max Operating Temperature: 85°C; Min Operating Temperature: -55°C; Mounting Technology: Surface Mount; Number of Terminals: 2; REACH SVHC: Yes; Thickness: 300µm; Tolerance: 20%; Voltage Rating: 16V; Voltage Rating (DC): 16V; Width: 300µm; ComponentLink1URL: https://datasheet.octopart.com:443/GRM033R61C105ME15D-Murata-datasheet-155345049.pdf?src-supplier=Newark; ComponentLink1Description: https://datasheet.octopart.com:443/GRM033R61C105ME15D-Murata-datasheet-155345049.pdf?src-supplier=Newark; ComponentLink2URL: https://datasheet.octopart.com:443/GRM033R61C105ME15D-Murata-datasheet-165579666.pdf?src-supplier=TME; ComponentLink2Description: https://datasheet.octopart.com:443/GRM033R61C105ME15D-Murata-datasheet-165579666.pdf?src-supplier=TME; ComponentLink3URL: https://datasheet.octopart.com:443/GRM033R61C105ME15D-Murata-datasheet-141274201.pdf?src-supplier=Ciiva; ComponentLink3Description: https://datasheet.octopart.com:443/GRM033R61C105ME15D-Murata-datasheet-141274201.pdf?src-supplier=Ciiva; ComponentLink4URL: https://datasheet.octopart.com:443/GRM033R61C105ME15D-Murata-datasheet-140676397.pdf?src-supplier=Ciiva; ComponentLink4Description: https://datasheet.octopart.com:443/GRM033R61C105ME15D-Murata-datasheet-140676397.pdf?src-supplier=Ciiva; ComponentLink5URL: https://datasheet.octopart.com:443/GRM033R61C105ME15D-Murata-datasheet-138738456.pdf?src-supplier=Ciiva; ComponentLink5Description: https://datasheet.octopart.com:443/GRM033R61C105ME15D-Murata-datasheet-138738456.pdf?src-supplier=Ciiva; ComponentLink6URL: https://datasheet.octopart.com/GRM033R61C105ME15D-Murata-datasheet-12515295.pdf; ComponentLink6Description: https://datasheet.octopart.com/GRM033R61C105ME15D-Murata-datasheet-12515295.pdf; ComponentLink7URL: https://datasheet.octopart.com/GRM033R61C105ME15D-Murata-datasheet-12510076.pdf; ComponentLink7Description: https://datasheet.octopart.com/GRM033R61C105ME15D-Murata-datasheet-12510076.pdf; ComponentLink8URL: https://datasheet.octopart.com/GRM033R61C105ME15D-Murata-datasheet-11978611.pdf; ComponentLink8Description: https://datasheet.octopart.com/GRM033R61C105ME15D-Murata-datasheet-11978611.pdf; ComponentLink9URL: https://datasheet.octopart.com/GRM033R61C105ME15D-Murata-datasheet-10025737.pdf; ComponentLink9Description: https://datasheet.octopart.com/GRM033R61C105ME15D-Murata-datasheet-10025737.pdf; ComponentLink10URL: https://datasheet.octopart.com/GRM033R61C105ME15D-Murata-datasheet-8819587.pdf; ComponentLink10Description: https://datasheet.octopart.com/GRM033R61C105ME15D-Murata-datasheet-8819587.pdf; ComponentLink11URL: http://sigma.octopart.com:80/reach_statement/Murata-company-16.pdf?src-supplier=Compliance+Statements; ComponentLink11Description: http://sigma.octopart.com:80/reach_statement/Murata-company-16.pdf?src-supplier=Compliance+Statements; Supplier 1: DigiKey; Supplier Part Number 1: 490-18654-1-ND
footprint C0201
pins: 1, 2

## GRM0335C1E150JA01D
designator C?, comment 15pF
25V 15pF C0G ±5% 0201 Multilayer Ceramic Capacitors MLCC - SMD/SMT ROHS; Manufacturer: Murata; Manufacturer Part Number: GRM0335C1E150JA01D; Manufacturer Lifecycle Status: IN PRODUCTION; Temperature Coefficient: 30ppm/°C; Supplier: DigiKey; Supplier Part Number: 490-9658-1-ND; RoHS: Compliant; Category: Ceramic Capacitors; Stock: 436682; Pricing: 1=0,1, 10=0,014, 50=0,009, 100=0,0076, 500=0,00518, 1000=0,00446, 2500=0,00369, 5000=0,00323 (USD); Value: 15pF; Case/Package: 0201; Case Code (Imperial): 0201; Case Code (Metric): 0603; Depth: 300µm; Dielectric: C0G; Dielectric Material: Ceramic; Height: 300µm; Lead Free: Lead Free; Length: 600µm; Lifecycle Status: Production; Material: Ceramic; Max Operating Temperature: 125°C; Min Operating Temperature: -55°C; Mounting Technology: Surface Mount; Number of Terminals: 2; Packaging: Cut Tape; Radiation Hardening: No; REACH SVHC: Yes; Schedule B: 8532240020, 8532240020|8532240020, 8532240020|8532240020|8532240020, 8532240020|8532240020|8532240020|8532240020; Termination: SMD/SMT; Thickness: 300µm; Tolerance: 5%; Voltage Rating: 25V; Voltage Rating (DC): 25V; Width: 300µm; ComponentLink1URL: https://datasheet.octopart.com:443/GRM0335C1E150JA01D-Murata-datasheet-62317006.pdf?src-supplier=element14+APAC; ComponentLink1Description: https://datasheet.octopart.com:443/GRM0335C1E150JA01D-Murata-datasheet-62317006.pdf?src-supplier=element14+APAC; ComponentLink2URL: https://datasheet.octopart.com:443/GRM0335C1E150JA01D-Murata-datasheet-12532738.pdf?src-supplier=HQonline; ComponentLink2Description: https://datasheet.octopart.com:443/GRM0335C1E150JA01D-Murata-datasheet-12532738.pdf?src-supplier=HQonline; ComponentLink3URL: https://datasheet.octopart.com:443/GRM0335C1E150JA01D-Murata-datasheet-165579666.pdf?src-supplier=TME; ComponentLink3Description: https://datasheet.octopart.com:443/GRM0335C1E150JA01D-Murata-datasheet-165579666.pdf?src-supplier=TME; ComponentLink4URL: https://datasheet.octopart.com:443/GRM0335C1E150JA01D-Murata-datasheet-141273935.pdf?src-supplier=Ciiva; ComponentLink4Description: https://datasheet.octopart.com:443/GRM0335C1E150JA01D-Murata-datasheet-141273935.pdf?src-supplier=Ciiva; ComponentLink5URL: https://datasheet.octopart.com:443/GRM0335C1E150JA01D-Murata-datasheet-140673894.pdf?src-supplier=Ciiva; ComponentLink5Description: https://datasheet.octopart.com:443/GRM0335C1E150JA01D-Murata-datasheet-140673894.pdf?src-supplier=Ciiva; ComponentLink6URL: https://datasheet.octopart.com:443/GRM0335C1E150JA01D-Murata-datasheet-138736674.pdf?src-supplier=Ciiva; ComponentLink6Description: https://datasheet.octopart.com:443/GRM0335C1E150JA01D-Murata-datasheet-138736674.pdf?src-supplier=Ciiva; ComponentLink7URL: https://datasheet.octopart.com:443/GRM0335C1E150JA01D-Murata-datasheet-22122223.pdf?src-supplier=Future+Electronics; ComponentLink7Description: https://datasheet.octopart.com:443/GRM0335C1E150JA01D-Murata-datasheet-22122223.pdf?src-supplier=Future+Electronics; ComponentLink8URL: https://datasheet.octopart.com/GRM0335C1E150JA01D-Murata-datasheet-12515295.pdf; ComponentLink8Description: https://datasheet.octopart.com/GRM0335C1E150JA01D-Murata-datasheet-12515295.pdf; ComponentLink9URL: https://datasheet.octopart.com/GRM0335C1E150JA01D-Murata-datasheet-12510076.pdf; ComponentLink9Description: https://datasheet.octopart.com/GRM0335C1E150JA01D-Murata-datasheet-12510076.pdf; ComponentLink10URL: https://datasheet.octopart.com/GRM0335C1E150JA01D-Murata-datasheet-11978611.pdf; ComponentLink10Description: https://datasheet.octopart.com/GRM0335C1E150JA01D-Murata-datasheet-11978611.pdf; ComponentLink11URL: https://datasheet.octopart.com/GRM0335C1E150JA01D-Murata-datasheet-10025737.pdf; ComponentLink11Description: https://datasheet.octopart.com/GRM0335C1E150JA01D-Murata-datasheet-10025737.pdf; ComponentLink12URL: https://datasheet.octopart.com/GRM0335C1E150JA01D-Murata-datasheet-8819587.pdf; ComponentLink12Description: https://datasheet.octopart.com/GRM0335C1E150JA01D-Murata-datasheet-8819587.pdf; ComponentLink13URL: https://datasheet.octopart.com/GRM0335C1E150JA01D-Murata-datasheet-14397959.pdf; ComponentLink13Description: https://datasheet.octopart.com/GRM0335C1E150JA01D-Murata-datasheet-14397959.pdf; ComponentLink14URL: http://sigma.octopart.com:80/reach_statement/Murata-company-16.pdf?src-supplier=Compliance+Statements; ComponentLink14Description: http://sigma.octopart.com:80/reach_statement/Murata-company-16.pdf?src-supplier=Compliance+Statements; Supplier 1: DigiKey; Supplier Part Number 1: 490-9658-1-ND
footprint C0201
pins: 1, 2

## GRM0335C1H200GA01D
designator C?, comment 20pF
50V 20pF C0G ±2% 0201 Multilayer Ceramic Capacitors MLCC - SMD/SMT ROHS; Manufacturer: Murata; Manufacturer Part Number: GRM0335C1H200GA01D; Manufacturer Lifecycle Status: IN PRODUCTION; Temperature Coefficient: 30ppm/°C; Supplier: DigiKey; Supplier Part Number: 490-6122-1-ND; RoHS: Compliant; Category: Ceramic Capacitors; Stock: 186504; Pricing: 1=0,1, 10=0,015, 50=0,010, 100=0,0083, 500=0,00572, 1000=0,00492, 2500=0,00408, 5000=0,00358 (USD); Value: 20pF; Case/Package: 0201; Case Code (Imperial): 0201; Case Code (Metric): 0603; Dielectric Material: Ceramic; Export Control Classification Number (ECCN) Code: EAR99; Height: 300µm; Harmonized Tariff Schedule (HTS) Code: 8532.24.00.20; Introduction Date: 2013-11-20; Lead Free: Lead Free; Length: 600µm; Lifecycle Status: Production; Material: Ceramic; Max Operating Temperature: 125°C; Min Operating Temperature: -55°C; Mounting Technology: Surface Mount; Number of Terminals: 2; REACH SVHC: Yes; Schedule B: 8532240020, 8532240020|8532240020, 8532240020|8532240020|8532240020, 8532240020|8532240020|8532240020|8532240020; Termination: SMD/SMT; Thickness: 300µm; Tolerance: 2%; Voltage Rating: 50V; Voltage Rating (DC): 50V; Width: 300µm; ComponentLink1URL: https://datasheet.octopart.com:443/GRM0335C1H200GA01D-Murata-datasheet-165579666.pdf?src-supplier=TME; ComponentLink1Description: https://datasheet.octopart.com:443/GRM0335C1H200GA01D-Murata-datasheet-165579666.pdf?src-supplier=TME; ComponentLink2URL: https://datasheet.octopart.com:443/GRM0335C1H200GA01D-Murata-datasheet-141274005.pdf?src-supplier=Ciiva; ComponentLink2Description: https://datasheet.octopart.com:443/GRM0335C1H200GA01D-Murata-datasheet-141274005.pdf?src-supplier=Ciiva; ComponentLink3URL: https://datasheet.octopart.com:443/GRM0335C1H200GA01D-Murata-datasheet-140674370.pdf?src-supplier=Ciiva; ComponentLink3Description: https://datasheet.octopart.com:443/GRM0335C1H200GA01D-Murata-datasheet-140674370.pdf?src-supplier=Ciiva; ComponentLink4URL: https://datasheet.octopart.com:443/GRM0335C1H200GA01D-Murata-datasheet-138737153.pdf?src-supplier=Ciiva; ComponentLink4Description: https://datasheet.octopart.com:443/GRM0335C1H200GA01D-Murata-datasheet-138737153.pdf?src-supplier=Ciiva; ComponentLink5URL: https://datasheet.octopart.com:443/GRM0335C1H200GA01D-Murata-datasheet-102370999.pdf?src-supplier=HQonline; ComponentLink5Description: https://datasheet.octopart.com:443/GRM0335C1H200GA01D-Murata-datasheet-102370999.pdf?src-supplier=HQonline; ComponentLink6URL: https://datasheet.octopart.com:443/GRM0335C1H200GA01D-Murata-datasheet-22122223.pdf?src-supplier=Future+Electronics; ComponentLink6Description: https://datasheet.octopart.com:443/GRM0335C1H200GA01D-Murata-datasheet-22122223.pdf?src-supplier=Future+Electronics; ComponentLink7URL: https://datasheet.octopart.com/GRM0335C1H200GA01D-Murata-datasheet-12515295.pdf; ComponentLink7Description: https://datasheet.octopart.com/GRM0335C1H200GA01D-Murata-datasheet-12515295.pdf; ComponentLink8URL: https://datasheet.octopart.com/GRM0335C1H200GA01D-Murata-datasheet-12510076.pdf; ComponentLink8Description: https://datasheet.octopart.com/GRM0335C1H200GA01D-Murata-datasheet-12510076.pdf; ComponentLink9URL: https://datasheet.octopart.com/GRM0335C1H200GA01D-Murata-datasheet-11978611.pdf; ComponentLink9Description: https://datasheet.octopart.com/GRM0335C1H200GA01D-Murata-datasheet-11978611.pdf; ComponentLink10URL: https://datasheet.octopart.com/GRM0335C1H200GA01D-Murata-datasheet-10025737.pdf; ComponentLink10Description: https://datasheet.octopart.com/GRM0335C1H200GA01D-Murata-datasheet-10025737.pdf; ComponentLink11URL: https://datasheet.octopart.com/GRM0335C1H200GA01D-Murata-datasheet-8819587.pdf; ComponentLink11Description: https://datasheet.octopart.com/GRM0335C1H200GA01D-Murata-datasheet-8819587.pdf; ComponentLink12URL: https://datasheet.octopart.com/GRM0335C1H200GA01D-Murata-datasheet-14398191.pdf; ComponentLink12Description: https://datasheet.octopart.com/GRM0335C1H200GA01D-Murata-datasheet-14398191.pdf; ComponentLink13URL: http://sigma.octopart.com:80/reach_statement/Murata-company-16.pdf?src-supplier=Compliance+Statements; ComponentLink13Description: http://sigma.octopart.com:80/reach_statement/Murata-company-16.pdf?src-supplier=Compliance+Statements; Supplier 1: DigiKey; Supplier Part Number 1: 490-6122-1-ND
footprint C0201
pins: 1, 2